# Altium schematic symbol library MCP1702.SchLib: 1 symbol
Pins are listed as number, name and electrical type; pins without a type are passive.

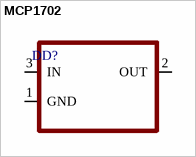
[diagram p0: symbol MCP1702]

## MCP1702
designator DD?
pins: 1 GND, 2 OUT, 3 IN